# Altium integrated library MTSW-104-07-T-D-240-LL.IntLib: 1 symbol
Pins are listed as number, name and electrical type; pins without a type are passive.

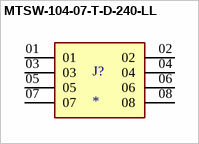
[diagram p0: symbol MTSW-104-07-T-D-240-LL]

## MTSW-104-07-T-D-240-LL
designator J?
Connector Header Through Hole 8 position 0.100 (2.54mm); MF: Samtec; MP: MTSW-104-07-T-D-240-LL; SnapEDA_Link: https://www.snapeda.com/parts/MTSW-104-07-T-D-240-LL/Samtec/view-part/?ref=snap; Package: None; Value: *; Check_prices: https://www.snapeda.com/parts/MTSW-104-07-T-D-240-LL/Samtec/view-part/?ref=eda
footprint SAMTEC_MTSW-104-07-T-D-240-LL
pins: 01, 02, 03, 04, 05, 06, 07, 08